# Altium schematic symbol library Composants_Projet_Sheet_TP9.SchLib: 10 symbols
Pins are listed as number, name and electrical type; pins without a type are passive.

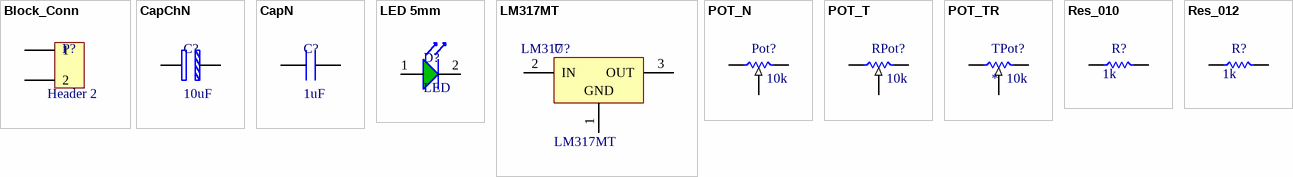
[diagram p0: symbols Block_Conn to Res_012]

## Block_Conn
designator P?, comment Header 2
Header 2 pins; Foootprint: Header 2 Pins; Value: Header 2
footprint CONNECTOR-B2 (HEADER 2PINS)
pins: 1 (power), 2 (power)

## CapChN
designator C?, comment value 10uF  (hidden comment: CapCh10u)
Footprint: CapCh10uF
footprint Capacitor_Ch
pins: 1, 2

## CapN
designator C?, comment value 1uF  (hidden comment: CapN03)
Footprint: 03
footprint Capacitor
pins: 1, 2

## LED 5mm
designator D?, comment LED
Footprint: *
footprint LED 5mm
pins: 1 A, 2 K

## LM317MT
designator U?  Foootprint: LM317
Regulator Voltage
footprint TO220V
footprint TO220V
pins: 1 ADJ, 2 IN, 3 OUT
text: GND

## POT_N
designator Pot?  value 10k  (hidden comment: *)
Footprint: PotN_10
footprint POTENTIOMETER
pins: 1, 2, 3 (in)

## POT_T
designator RPot?  value 10k  (hidden comment: *)
Footprint: RPot_V
footprint POTENTIOMETER_Tr
pins: 1, 2 (in), 3

## POT_TR
designator TPot?  value 10k
Footprint: Pot Trimmer
footprint POTENTIOMETER_N_Trimmer
pins: 1, 2 (in), 3

## Res_010
designator R?  value 1k  (hidden comment: *)
Footprint: R010
footprint Res10mm
pins: 1, 2

## Res_012
designator R?  value 1k  (hidden comment: *)
Footprint: R012
footprint ResistorN 12mm
pins: 1, 2